# EAGLE library part TEENSY_4.1 (library SpatMuy2022)
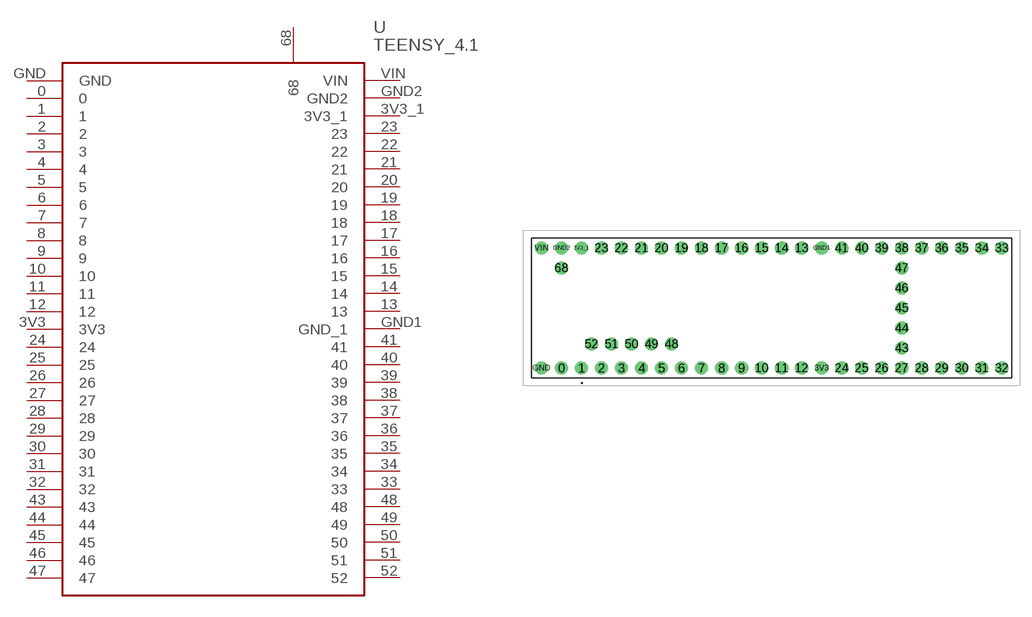
[diagram p0: symbol with the pads of TEENSY41; footprint TEENSY41]

Designator prefix -

## TEENSY_4.1  [TEENSY41]
0  0
1  1
2  2
3  3
3V3  3V3
3V3_1  3V3_1
4  4
5  5
6  6
7  7
8  8
9  9
10  10
11  11
12  12
13  13
14  14
15  15
16  16
17  17
18  18
19  19
20  20
21  21
22  22
23  23
24  24
25  25
26  26
27  27
28  28
29  29
30  30
31  31
32  32
33  33
34  34
35  35
36  36
37  37
38  38
39  39
40  40
41  41
43  43
44  44
45  45
46  46
47  47
48  48
49  49
50  50
51  51
52  52
68  68
GND  GND
GND1  GND_1
GND2  GND2
VIN  VIN

## Footprint TEENSY41 (pad centres in mm)
TEENSY 4.1-4
drill 1.11 pad 1.665: 0 -2.54,0; 1 0,0; 2 2.54,0; 3 5.08,0; 3V3 30.48,0; 3V3_1 0,15.24; 4 7.62,0; 5 10.16,0; 6 12.7,0; 7 15.24,0; 8 17.78,0; 9 20.32,0; 10 22.86,0; 11 25.4,0; 12 27.94,0; 13 27.94,15.24; 14 25.4,15.24; 15 22.86,15.24; 16 20.32,15.24; 17 17.78,15.24; 18 15.24,15.24; 19 12.7,15.24; 20 10.16,15.24; 21 7.62,15.24; 22 5.08,15.24; 23 2.54,15.24; 24 33.02,0; 25 35.56,0; 26 38.1,0; 27 40.64,0; 28 43.18,0; 29 45.72,0; 30 48.26,0; 31 50.8,0; 32 53.34,0; 33 53.34,15.24; 34 50.8,15.24; 35 48.26,15.24; 36 45.72,15.24; 37 43.18,15.24; 38 40.64,15.24; 39 38.1,15.24; 40 35.56,15.24; 41 33.02,15.24; 43 40.64,2.54; 44 40.64,5.08; 45 40.64,7.62; 46 40.64,10.16; 47 40.64,12.7; 48 11.43,3.05; 49 8.89,3.05; 50 6.35,3.05; 51 3.81,3.05; 52 1.27,3.05; 68 -2.54,12.7; GND -5.08,0; GND1 30.48,15.24; GND2 -2.54,15.24; VIN -5.08,15.24